# Altium schematic symbol library Actives.SchLib: 32 symbols
Pins are listed as number, name and electrical type; pins without a type are passive.

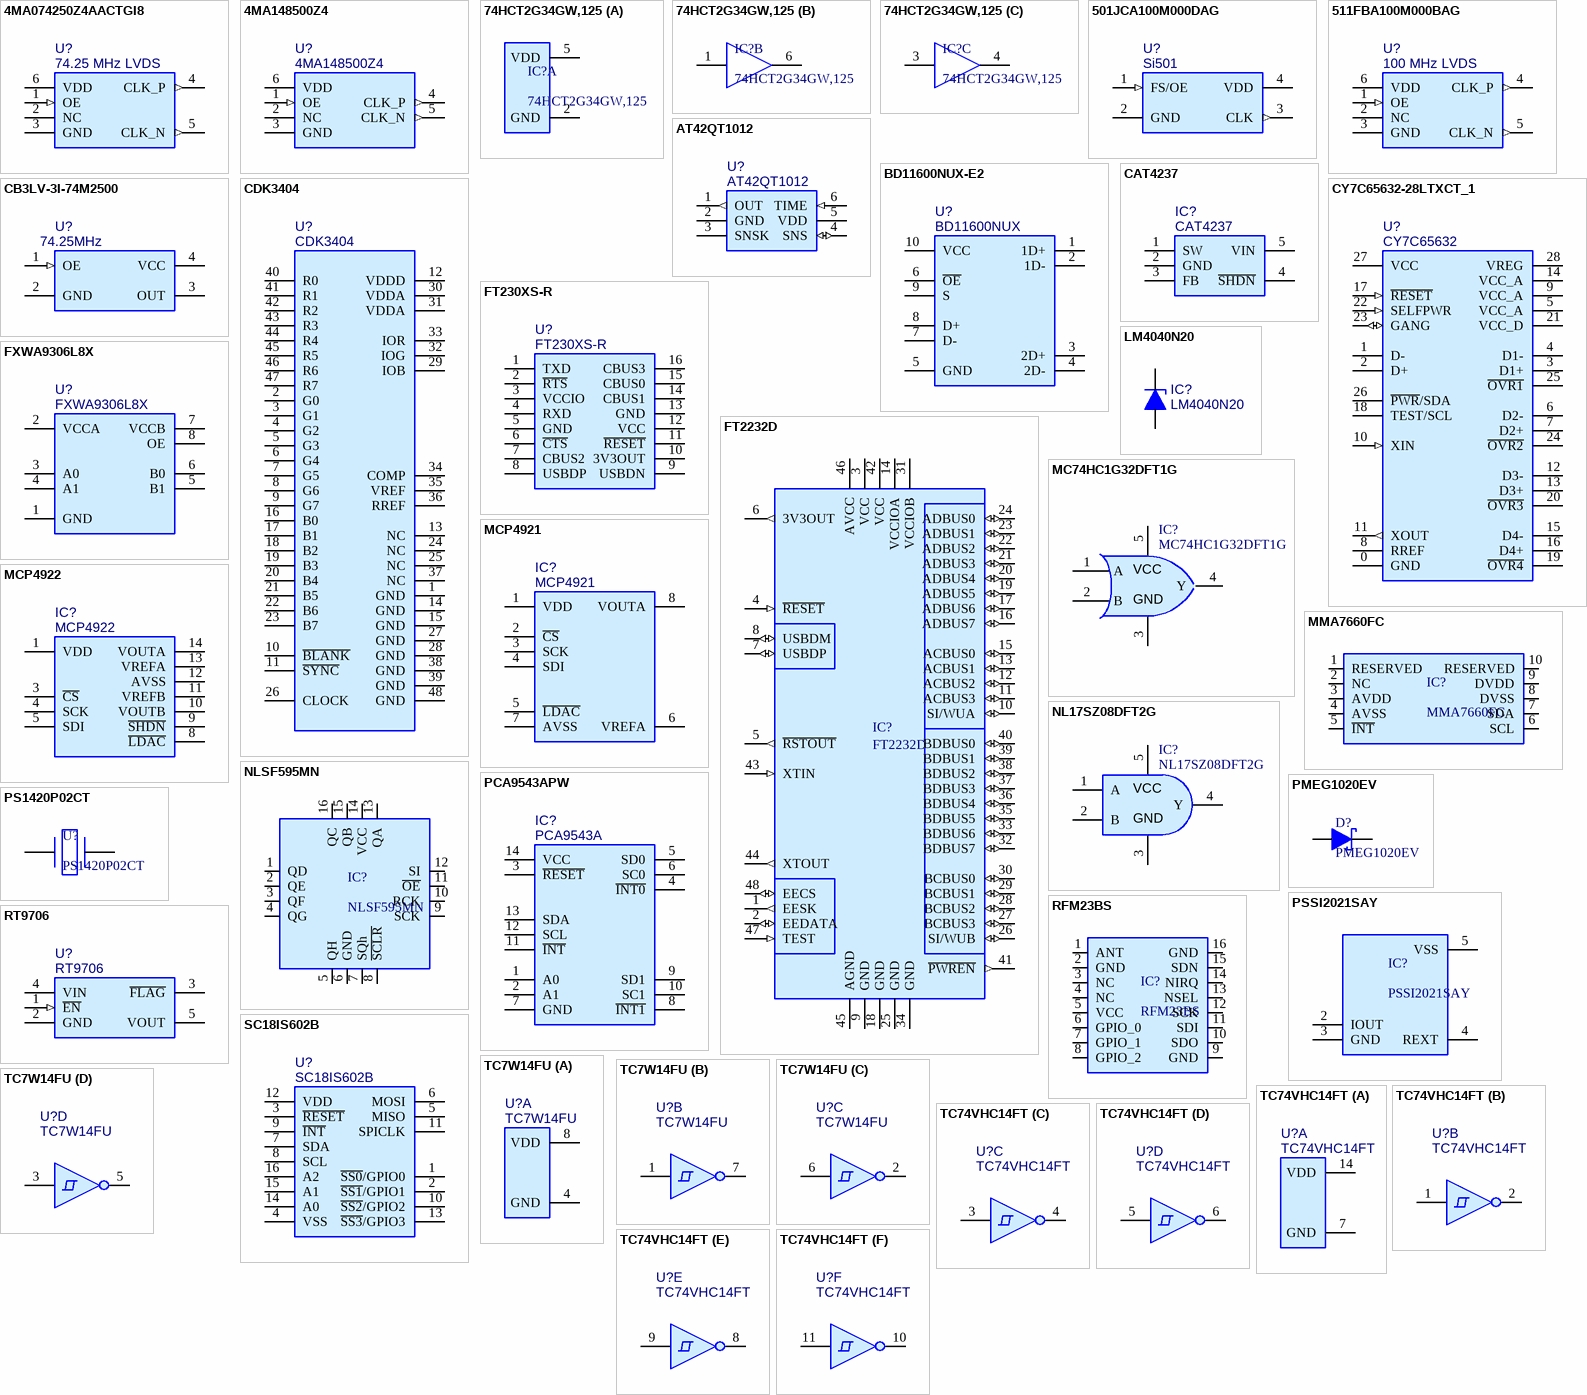
[diagram p0: symbols 4MA074250Z4AACTGI8 to TC74VHC14FT]

## 4MA074250Z4AACTGI8
designator U?, comment 74.25 MHz LVDS
74.25 MHz LVDS Oscillator; Manufacturer 1: IDT; Manufacturer Part Number 1: 4MA074250Z4AACTGI8; Last Updated: 2014-07-17; Supplier 1: Mouser; Supplier Part Number 1: 972-A074250Z4AACTGI8; Package: IDT; ComponentLink1Description: Datasheet; Created: 2014-07-17
footprint 5.0x3.2, 6PIN (5.0mm x 3.2mm, 6PIN)
pins: 1 OE (in), 2 NC, 3 GND (power), 4 CLK_P (out), 5 CLK_N (out), 6 VDD (power)

## 4MA148500Z4
designator U?
148.50 MHz LVDS Oscillator; Manufacturer 1: Silicon Labs; Manufacturer Part Number 1: 4MA148500Z4AACUGI; Last Updated: 2014-06-15; Supplier 1: Mouser; Supplier Part Number 1: 972-MA148500Z4AACUGI; Package: IDT; ComponentLink1Description: Datasheet; Created: 2014-06-15
footprint 4MA148500Z4 (SMD 6L 7.0 x 5.0mm oscillator package)
pins: 1 OE (in), 2 NC, 3 GND (power), 4 CLK_P (out), 5 CLK_N (out), 6 VDD (power)

## 74HCT2G34GW,125
designator IC?
5V Dual buffer gate; Supplier 1: Mouser; Supplier Part Number 1: 771-HCT2G34GW125; ComponentLink1Description: Datasheet; Created: 2013-09-28; Last Updated: 2013-09-28
footprint SOT363 (SOT23, 6-Leads, Body 2,2x2,2mm (max), Pitch 0,65mm, IPC Medium Density)
part A pins: 2 GND (power), 5 VDD (power)
part B pins: 1, 6
part C pins: 3, 4

## 501JCA100M000DAG
designator U?, comment Si501
Standard Clock Oscillators CMEMS Std Freq Osc 100MHz, 3.3 V; Manufacturer 1: Silicon Labs; Manufacturer Part Number 1: 501JCA100M000DAG; Last Updated: 2014-06-13; Supplier 1: Mouser; Supplier Part Number 1: 634-501JCA100M000DAG; Package: DFN; ComponentLink1Description: Datasheet; Created: 2014-06-13
footprint DFN4 3.2x2.5MM (2.5 x 3.2 mm 4-pin DFN)
pins: 1 FS/OE (in), 2 GND (power), 3 CLK (out), 4 VDD (power)

## 511FBA100M000BAG
designator U?, comment 100 MHz LVDS
100 MHz LVDS Oscillator; Manufacturer 1: Silicon Labs; Manufacturer Part Number 1: 511FBA100M000BAG; Last Updated: 2014-07-17; Supplier 1: Mouser; Supplier Part Number 1: 634-511FBA100M000BAG; Package: IDT; ComponentLink1Description: Datasheet; Created: 2014-07-17
footprint 3.2X2.5, 6PIN (3.2mm x 2.5mm, 6 pin oscillator)
pins: 1 OE (in), 2 NC, 3 GND (power), 4 CLK_P (out), 5 CLK_N (out), 6 VDD (power)

## AT42QT1012
designator U?
One-channel Toggle-mode QTouch® Touch Sensor IC with Power Management Functions; Manufacturer 1: Atmel; Manufacturer Part Number 1: AT42QT1012-TSHR; ComponentLink1Description: Datasheet; ComponentLink1URL: http://www.atmel.com/Images/Atmel-9543-AT42-QTouch-BSW-AT42QT1012_Datasheet.pdf; Created: 2013-09-30; Last Updated: 2013-09-30; Package: SOT-23-6; Supplier 1: DigiKey; Supplier Part Number 1: AT42QT1012-TSHRTR-ND
footprint SOT23-6
pins: 1 OUT (out), 2 GND (power), 3 SNSK (power), 4 SNS (io), 5 VDD (power), 6 TIME (in)

## BD11600NUX-E2
designator U?, comment BD11600NUX
Analogue Switch; Manufacturer 1: ROHM; Manufacturer Part Number 1: BD11600NUX-E2; Supplier 1: Mouser; Supplier Part Number 1: 755-BD11600NUX-E2; ComponentLink1Description: Datasheet; Created: 2014-05-18; Last Updated: 2014-05-18; Package: VSON-10
footprint VSON-10
pins: 1 1D+, 2 1D-, 3 2D+, 4 2D-, 5 GND (power), 6 ~{OE}, 7 D-, 8 D+, 9 S, 10 VCC

## CAT4237
designator IC?
High Voltage CMOS Boost  White LED Driver; Manufacturer 1: ON; Manufacturer Part Number 1: CAT4237TD-GT3; Last Updated: 2014-02-16; Supplier 1: Mouser; Supplier Part Number 1: 698-CAT4237TD-GT3; Package: SOT-23-5; ComponentLink1Description: Datasheet; ComponentLink1URL: http://www.mouser.com/ds/2/308/CAT4237-D-69174.pdf; Created: 2013-09-28
footprint SOT23-5
pins: 1 SW (oc), 2 GND (power), 3 FB, 4 ~{SHDN}, 5 VIN (power)

## CB3LV-3I-74M2500
designator U?, comment 74.25MHz
74.25MHz HCMOS/TTL Oscillator; Manufacturer 1: CTS; Manufacturer Part Number 1: CB3LV-3I-74M2500; Last Updated: 2014-07-01; Supplier 1: Mouser; Supplier Part Number 1: 774-CB3LV-3I-74M2500; Package: 7mm x 5mm; ComponentLink1Description: Datasheet; Created: 2014-07-01
footprint CTS_CB3LV
pins: 1 OE (in), 2 GND (power), 3 OUT (power), 4 VCC (power)

## CDK3404
designator U?
8-bit, 180MSPS, Triple Video DAC; Manufacturer 1: Exar; Manufacturer Part Number 1: CDK3404ATQ48; Last Updated: 2014-05-16; Supplier 1: DigiKey; Supplier Part Number 1: 1016-1935-ND; Package: TQFP-48; ComponentLink1Description: Datasheet; Created: 2014-05-16
footprint TQFP48
pins: 1 GND (power), 2 G0, 3 G1, 4 G2, 5 G3, 6 G4, 7 G5, 8 G6, 9 G7, 10 ~{BLANK}, 11 ~{SYNC}, 12 VDDD (power), 13 NC, 14 GND (power), 15 GND (power), 16 B0, 17 B1, 18 B2, 19 B3, 20 B4, 21 B5, 22 B6, 23 B7, 24 NC, 25 NC, 26 CLOCK, 27 GND (power), 28 GND (power), 29 IOB, 30 VDDA (power), 31 VDDA (power), 32 IOG, 33 IOR, 34 COMP, 35 VREF, 36 RREF, 37 NC, 38 GND (power), 39 GND (power), 40 R0, 41 R1, 42 R2, 43 R3, 44 R4, 45 R5, 46 R6, 47 R7, 48 GND (power)

## CY7C65632-28LTXCT_1
designator U?, comment CY7C65632
USB HUB 4 Downstream ports; Manufacturer 1: Cypress; Manufacturer Part Number 1: CY7C65632-28LTXCT; Last Updated: 2014-05-25; Package: QFN-29; ComponentLink1Description: Datasheet; Created: 2014-05-25
footprint QFN50P500X500X80_HS-29N (QFN, 28-Leads, Body 5,00x5,00mm, Pitch 0,50mm, Thermal Pad 3,50x3,50mm, IPC Medium Density)
pins: 0 GND, 1 D-, 2 D+, 3 D1+, 4 D1-, 5 VCC_A (power), 6 D2-, 7 D2+, 8 RREF, 9 VCC_A (power), 10 XIN (in), 11 XOUT (out), 12 D3-, 13 D3+, 14 VCC_A (power), 15 D4-, 16 D4+, 17 ~{RESET} (in), 18 TEST/SCL, 19 ~{OVR4}, 20 ~{OVR3}, 21 VCC_D (power), 22 SELFPWR (in), 23 GANG (io), 24 ~{OVR2}, 25 ~{OVR1}, 26 ~{PWR}/SDA, 27 VCC (power), 28 VREG

## FT230XS-R
designator U?
UART to USB; Supplier 1: Mouser; Supplier Part Number 1: 895-FT230XS-R; Last Updated: 2014-02-11; Package: SSOP-16; ComponentLink1Description: Datasheet; Created: 2013-09-28
footprint SSOP16
pins: 1 TXD, 2 ~{RTS}, 3 VCCIO, 4 RXD, 5 GND (power), 6 ~{CTS}, 7 CBUS2, 8 USBDP, 9 USBDN, 10 3V3OUT (power), 11 ~{RESET}, 12 VCC (power), 13 GND (power), 14 CBUS1, 15 CBUS0, 16 CBUS3

## FT2232D
designator IC?
FT2232D Dual USB to Serial UART/FIFO; Manufacturer 1: FTDI; ComponentLink1Description: Datasheet; ComponentLink1URL: http://www.ftdichip.com/Support/Documents/DataSheets/ICs/DS_FT2232D.pdf; Created: 2013-10-16; Last Updated: 2013-10-16; Manufacturer Part Number 1: FT2232D; Package: LQFP-48
footprint LQFP-48
pins: 1 EESK (out) "Clock signal to EEPROM. Tri-State during device reset, else drives out.", 2 EEDATA (io) "EEPROM – Data I/O Connect directly to Data-In of the EEPROM and to Data-Out of the EEPROM via a 2.2K resistor. Also, pull Data-Out of the EEPROM to VCC via a 10K resistor for correct operation. Tri-State during device reset.", 3 VCC (power) "+4.35V to 5.25V device core.", 4 ~{RESET} (in) "Can be used by an external device to reset the FT2232D. If not required, tie to VCC.", 5 ~{RSTOUT} (out) "Output of the internal Reset Generator. Drives low for 5.6 ms after VCC > 3.5V and the internal clock starts up, then clamps it?s output to the 3.3V output of the internal regulator. Taking RESET# low will also force RSTOUT# to drive low. RSTOUT# is NOT a", 6 3V3OUT (out), 7 USBDP (io) "USB Data Signal Plus ( Requires 1.5K pull-up to 3V3OUT or RSTOUT# )", 8 USBDM (io) "USB Data Signal Minus", 9 GND (power), 10 SI/WUA (io), 11 ACBUS3 (io), 12 ACBUS2 (io), 13 ACBUS1 (io), 14 VCCIOA (power), 15 ACBUS0 (io), 16 ADBUS7 (io), 17 ADBUS6 (io), 18 GND (power), 19 ADBUS5 (io), 20 ADBUS4 (io), 21 ADBUS3 (io), 22 ADBUS2 (io), 23 ADBUS1 (io), 24 ADBUS0 (io), 25 GND (power), 26 SI/WUB (io), 27 BCBUS3 (io), 28 BCBUS2 (io), 29 BCBUS1 (io), 30 BCBUS0 (io), 31 VCCIOB (power), 32 BDBUS7 (io), 33 BDBUS6 (io), 34 GND (power), 35 BDBUS5 (io), 36 BDBUS4 (io), 37 BDBUS3 (io), 38 BDBUS2 (io), 39 BDBUS1 (io), 40 BDBUS0 (io), 41 ~{PWREN} (out) "Goes Low after the device is configured via USB, then high during USB suspend. Can be used to control power to external logic using a P-Channel Logic Level MOSFET switch. Enable the Interface Pull-Down Option in EEPROM when using the PWREN# pin in this wa", 42 VCC (power) "+4.35V to 5.25V device core.", 43 XTIN (in) "Input to 6MHz Crystal Oscillator Cell. This pin can also be driven by an external 6MHz clock if required. Note: Switching threshold of this pin is VCC/2, so if driving from an external source, the source must be driving at 5V CMOS level or a.c. coupled to", 44 XTOUT (out) "Output from 6MHz Crystal Oscillator Cell. XTOUT stops oscillating during USB suspend, so take care if using this signal to clock external logic.", 45 AGND (power), 46 AVCC (power), 47 TEST (in) "Puts device into I.C. test mode – must be tied to GND for normal operation.", 48 EECS (io) "EEPROM – Chip Select. Tri-State during device reset."

## FXWA9306L8X
designator U?
Dual bi-directional I2C and SMBus voltage-level translator; Manufacturer 1: Fairchild; Supplier 1: Mouser; Supplier Part Number 1: 512-FXWA9306L8X; ComponentLink1Description: Datasheet; Created: 2014-05-17; Last Updated: 2014-05-17; Manufacturer Part Number 1: FXWA9306L8X; Package: MicroPak-8
pins: 1 GND (power), 2 VCCA (power), 3 A0, 4 A1, 5 B1, 6 B0, 7 VCCB (power), 8 OE (power)

## LM4040N20
designator IC?
2.048 Voltage Reference; Manufacturer 1: Texas Instruments; Manufacturer Part Number 1: LM4040D20IDBZR; Supplier 1: Mouser; Supplier Part Number 1: 595-LM4040D20IDBZR; ComponentLink1Description: Datasheet; Created: 2013-09-28; Last Updated: 2014-08-30; Package: SOT-23
footprint SOT23
pins: 1 "Cathode", 2 A "Anode"

## MC74HC1G32DFT1G
designator IC?
2-input OR Gate; Supplier 1: Mouser; Supplier Part Number 1: 863-MC74HC1G32DFT1G; ComponentLink1Description: Datasheet; Created: 2013-09-28; Last Updated: 2013-09-28
footprint SOT353 (SOT23, 5-Leads, Body 2.2x2.2mm (max), Pitch 0.65mm, IPC Medium Density)
pins: 1 A, 2 B, 3 GND, 4 Y, 5 VCC

## MCP4921
designator IC?
DAC 12bit SPI; Manufacturer 1: Microchip; Manufacturer Part Number 1: MCP4921-E/SN; Supplier 1: Mouser; Supplier Part Number 1: 579-MCP4921-E/SL; ComponentLink1Description: Datasheet; Created: 2014-09-23; Last Updated: 2014-09-23; Package: SOIC14
footprint SOIC8 (SOIC, 8-Leads, Body 5,0x4,0mm (max), Pitch 1,27mm, IPC Medium Density)
pins: 1 VDD, 2 ~{CS}, 3 SCK, 4 SDI, 5 ~{LDAC}, 6 VREFA, 7 AVSS, 8 VOUTA

## MCP4922
designator IC?
DAC 12bit SPI; Manufacturer 1: Microchip; Manufacturer Part Number 1: MCP4922-E/SL; Supplier 1: Mouser; Supplier Part Number 1: 579-MCP4922-E/SL; ComponentLink1Description: Datasheet; Created: 2013-09-28; Last Updated: 2014-09-23; Package: SOIC14
footprint SOIC14
pins: 1 VDD, 3 ~{CS}, 4 SCK, 5 SDI, 8 ~{LDAC}, 9 ~{SHDN}, 10 VOUTB, 11 VREFB, 12 AVSS, 13 VREFA, 14 VOUTA

## MMA7660FC
designator IC?
Accelerometer 3axis, 1.5g; Supplier 1: Mouser; Supplier Part Number 1: 841-MMA7660FCT; ComponentLink1Description: Datasheet; Created: 2013-09-28; Last Updated: 2013-09-28
footprint DFN10 3x3mm
pins: 1 RESERVED, 2 NC, 3 AVDD, 4 AVSS, 5 ~{INT}, 6 SCL, 7 SDA, 8 DVSS, 9 DVDD, 10 RESERVED

## NL17SZ08DFT2G
designator IC?
2-input AND Gate; Supplier 1: Mouser; Supplier Part Number 1: 863-NL17SZ08DFT2G; ComponentLink1Description: Datasheet; Created: 2013-09-28; Last Updated: 2013-09-28
footprint SOT353 (SOT23, 5-Leads, Body 2.2x2.2mm (max), Pitch 0.65mm, IPC Medium Density)
pins: 1 A, 2 B, 3 GND, 4 Y, 5 VCC

## NLSF595MN
designator IC?
SPI Tri-color LED driver; Supplier 1: Mouser; Supplier Part Number 1: 863-NLSF595MNR2G; ComponentLink1Description: Datasheet; Created: 2013-09-28; Last Updated: 2013-09-28
footprint QFN16 3x3, 0.5P
pins: 1 QD, 2 QE, 3 QF, 4 QG, 5 QH, 6 GND, 7 SQh, 8 ~{SCLR}, 9 SCK, 10 RCK, 11 ~{OE}, 12 SI, 13 QA, 14 VCC, 15 QB, 16 QC

## PCA9543APW
designator IC?, comment PCA9543A
Dual bi-directional I2C and SMBus voltage-level translator; Manufacturer 1: TI; Manufacturer Part Number 1: PCA9543APW; Supplier 1: DigiKey; Supplier Part Number 1: 568-1858-1-ND; ComponentLink1Description: Datasheet; Created: 2014-05-18; Last Updated: 2014-05-18; Package: TSSOP-14
footprint TSSOP14-P-0044-0.65A (TSSOP, 14-Leads, Body 5.4x4.5mm (max), Pitch 0.65mm, IPC Medium Density)
pins: 1 A0, 2 A1, 3 ~{RESET}, 4 ~{INT0}, 5 SD0, 6 SC0, 7 GND (power), 8 ~{INT1}, 9 SD1, 10 SC1, 11 ~{INT}, 12 SCL, 13 SDA, 14 VCC (power)

## PMEG1020EV
designator D?
Schottky Diode Ultra low barrier 2A; Manufacturer 1: NXP; ComponentLink1URL: http://www.nxp.com/documents/data_sheet/PMEG1020EV.pdf; ComponentLink1Description: Datasheet; Supplier 1: Mouser; Supplier Part Number 1: 771-PMEG1020EV115; Created: 2013-09-28; Last Updated: 2013-09-28
footprint SOT666 (SOT666, 6-Leads, Body 1.7x1.3mm (max), Pitch 0.50mm, IPC Medium Density)
pins: 1 K "Cathode", 2 K "Cathode", 3 A "Anode", 4 A "Anode", 5 K "Cathode", 6 K "Cathode"

## PS1420P02CT
designator U?
Piezo speaker 14mm x 11mm 2khz 5V; Supplier 1: Mouser; Supplier Part Number 1: 810-PS1420P02CT; ComponentLink1Description: Datasheet; Created: 2013-09-28; Last Updated: 2013-09-28
footprint PS1420P02CT (Piezo speaker)
pins: 1, 2

## PSSI2021SAY
designator IC?
Constant Current Source; Supplier 1: Mouser; Supplier Part Number 1: 771-PSSI2021SAY-T/R; ComponentLink1Description: Datasheet; Created: 2013-09-28; Last Updated: 2013-09-28
footprint SOT353
pins: 2 IOUT, 3 GND, 4 REXT, 5 VSS

## RFM23BS
designator IC?
Radio Module; ComponentLink1Description: Datasheet; Created: 2013-09-28; Last Updated: 2013-09-28
footprint RFM23BS
pins: 1 ANT, 2 GND, 3 NC, 4 NC, 5 VCC, 6 GPIO_0, 7 GPIO_1, 8 GPIO_2, 9 GND, 10 SDO, 11 SDI, 12 SCK, 13 NSEL, 14 NIRQ, 15 SDN, 16 GND

## RT9706
designator U?
80mOhm, 500mA High-Side Power Switch with Flag; Manufacturer 1: Richtek; Last Updated: 2014-05-31; Package: SOT-23-5; ComponentLink1Description: Datasheet; Created: 2014-05-31; Manufacturer Part Number 1: RT9706
footprint SOT23-5
pins: 1 ~{EN} (in), 2 GND (power), 3 ~{FLAG} (oc), 4 VIN (power), 5 VOUT (power)

## SC18IS602B
designator U?
I2C to SPI bridge; Manufacturer 1: NXP; Manufacturer Part Number 1: SC18IS602BIPW,128; Last Updated: 2015-02-04; Supplier 1: Mouser; Supplier Part Number 1: 771-SC18IS602BIPW128; Package: TSSOP-16; ComponentLink1Description: Datasheet; Created: 2015-02-04
footprint TSSOP65P500X440X110-16N (TSOP, 16-Leads, Body 5,00x4,40mm, Pitch 0,65mm, IPC Medium Density)
pins: 1 ~{SS0}/GPIO0, 2 ~{SS1}/GPIO1, 3 ~{RESET}, 4 VSS (power), 5 MISO, 6 MOSI, 7 SDA, 8 SCL, 9 ~{INT}, 10 ~{SS2}/GPIO2, 11 SPICLK, 12 VDD (power), 13 ~{SS3}/GPIO3, 14 A0, 15 A1, 16 A2

## TC7W14FU
designator U?
Triple Inverter Schmitt; Supplier 1: Mouser; Supplier Part Number 1: 757-TC7W14FUTE12LF; ComponentLink1Description: Datasheet; Created: 2013-09-28; Last Updated: 2014-05-21
footprint SSOP65P400X100-8N (SSOP, 8-Leads, Body 3,0x2,9mm (max), Pitch 0,65mm, IPC Medium Density)
part A pins: 4 GND (power), 8 VDD (power)
part B pins: 1 1A, 7 1Y
part C pins: 2 2Y, 6 2A
part D pins: 3 3A, 5 3Y

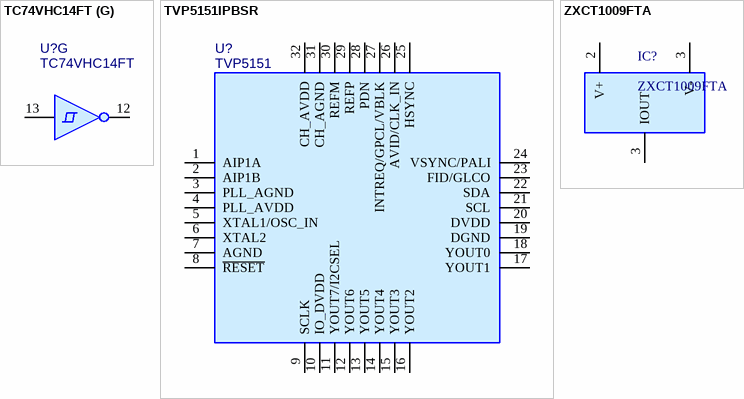
[diagram p1: symbols TC74VHC14FT to ZXCT1009FTA]

## TC74VHC14FT
designator U?
Hex Schmitt Inverter; Supplier 1: Mouser; Supplier Part Number 1: 757-TC74VHC14FTEK2M; ComponentLink1Description: Datasheet; Created: 2013-09-28; Last Updated: 2014-05-21
footprint TSSOP14-P-0044-0.65A (TSSOP, 14-Leads, Body 5.4x4.5mm (max), Pitch 0.65mm, IPC Medium Density)
part A pins: 7 GND (power), 14 VDD (power)
part B pins: 1 1A, 2 1Y
part C pins: 3 1A, 4 1Y
part D pins: 5 1A, 6 1Y
part E pins: 8 1Y, 9 1A
part F pins: 10 1Y, 11 1A
part G pins: 12 1Y, 13 1A

## TVP5151IPBSR
designator U?, comment TVP5151
Ultralow-Power NTSC/PAL/SECAM Video Decoder; Manufacturer 1: TI; Manufacturer Part Number 1: TVP5151IPBSR; Last Updated: 2015-02-04; Supplier 1: Arrow; Supplier Part Number 1: TVP5151IPBSR; Package: TQFP-32; ComponentLink1Description: Datasheet; Created: 2015-02-04
footprint TQFP50P700X700X120-32N (TSQFP, 32-Leads, Body 5,00x5,00mm, Pitch 0,50mm, IPC Medium Density)
pins: 1 AIP1A, 2 AIP1B, 3 PLL_AGND (power), 4 PLL_AVDD (power), 5 XTAL1/OSC_IN, 6 XTAL2, 7 AGND (power), 8 ~{RESET}, 9 SCLK, 10 IO_DVDD (power), 11 YOUT7/I2CSEL, 12 YOUT6, 13 YOUT5, 14 YOUT4, 15 YOUT3, 16 YOUT2, 17 YOUT1, 18 YOUT0, 19 DGND (power), 20 DVDD (power), 21 SCL, 22 SDA, 23 FID/GLCO, 24 VSYNC/PALI, 25 HSYNC, 26 AVID/CLK_IN, 27 INTREQ/GPCL/VBLK, 28 PDN, 29 REFP, 30 REFM, 31 CH_AGND (power), 32 CH_AVDD (power)

## ZXCT1009FTA
designator IC?
High Side Current sense; Supplier 1: Mouser; Supplier Part Number 1: 522-ZXCT1009FTA; ComponentLink1Description: Datasheet; Created: 2013-09-28; Last Updated: 2013-09-28
footprint SOT23
pins: 2 V+, 3 V-, 3 IOUT